# Altium footprint library BRye_PCBLib.PcbLib: 45 footprints (part 3 of 3)
Each footprint in its own frame and in the unit in brackets; x right, y up, seen from the top. Pads: shape width x height; smd on the part's side, far side on the other; paste and mask are expansions set on the pad; w line width, h text height; cw(c..) or ccw(c..) is an arc to the next point about the centre after c.
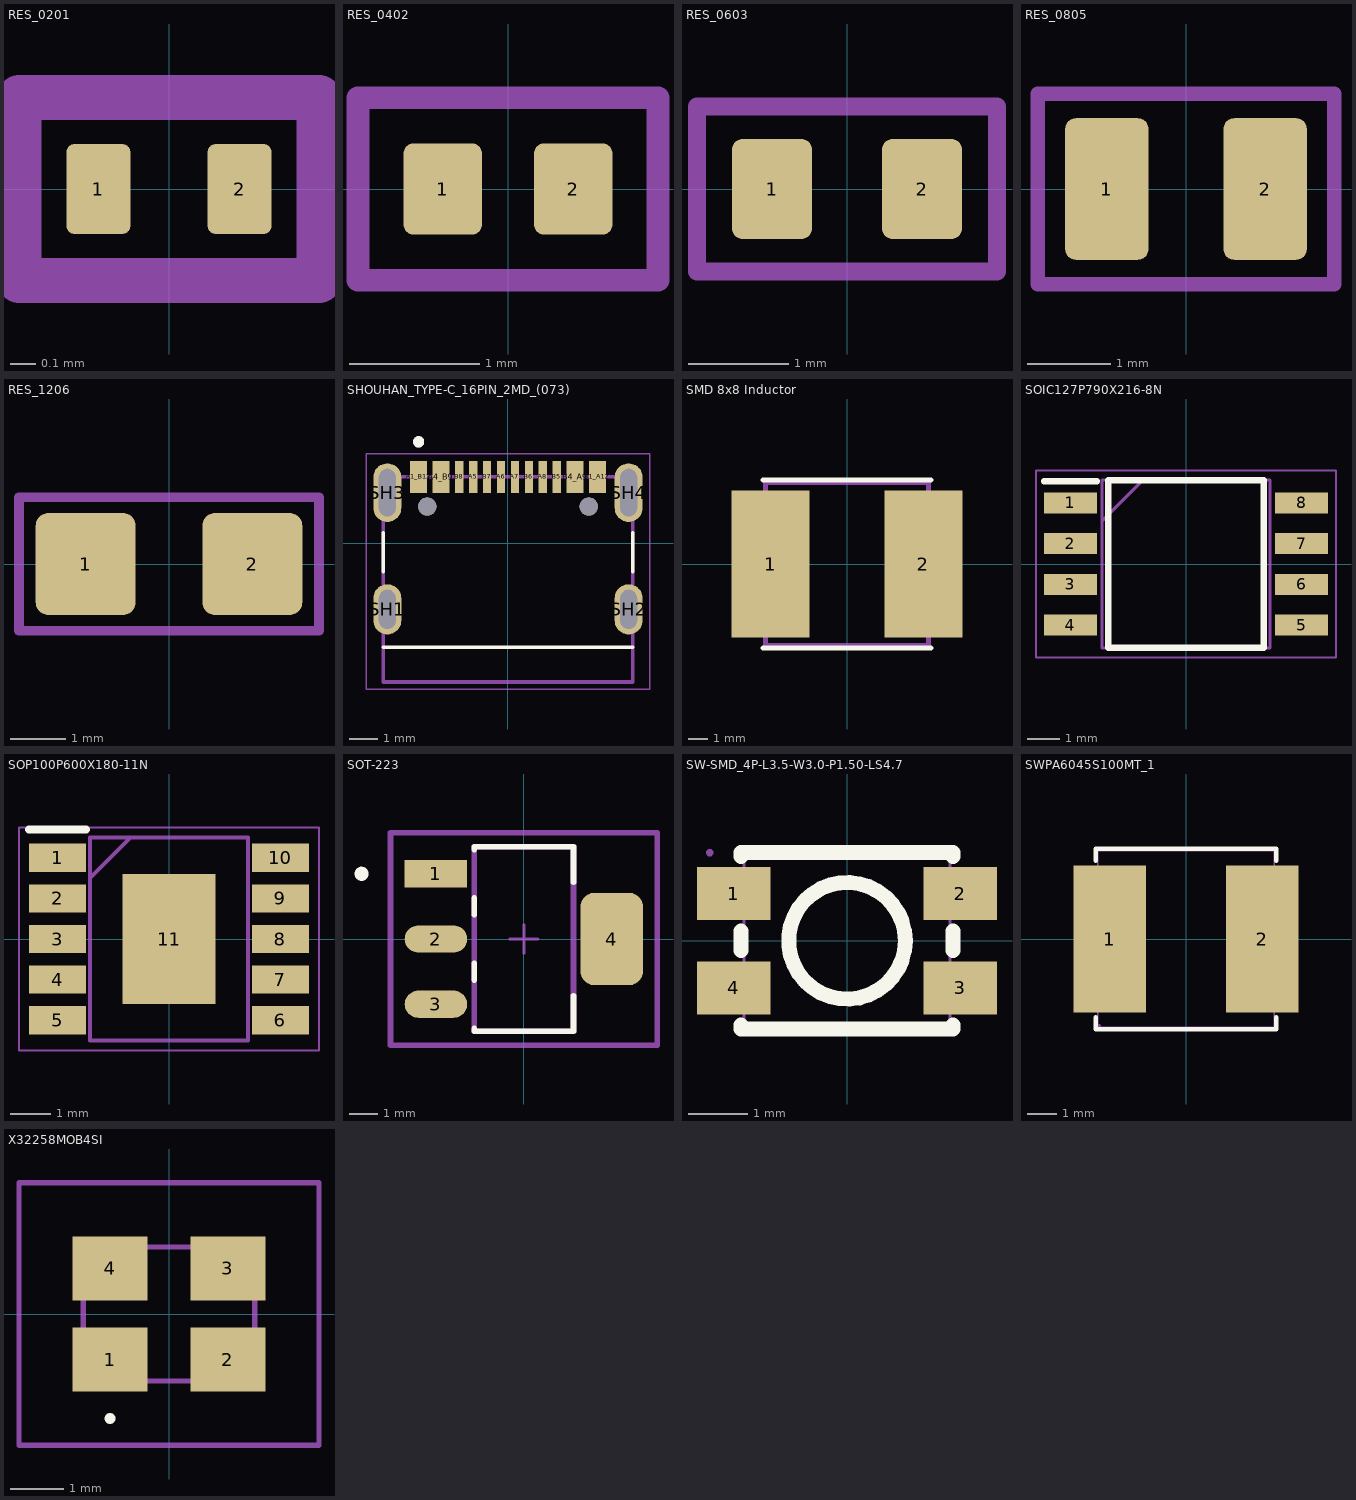
[diagram p2: the footprints below, top view; thin cyan lines are the x and y axes]

## RES_0201 [mm]
pads (2):
  rrect25% 0.25x0.35 smd mask+0.05: 1(-0.275,0) 2(0.275,0)
Top Assembly:
  lines w0.175: -0.584,-0.356 0.584,-0.356 0.584,0.356 -0.584,0.356 -0.584,-0.356
  text "'.Designator'" at -5.665,-0.417 h1
3D body "R0201.step": height 0.15, standoff 0, extent -0.3,-0.15 0.3,0.15

## RES_0402 [mm]
pads (2):
  rrect25% 0.6x0.7 smd: 1(-0.5,0) 2(0.5,0)
Top Assembly:
  lines w0.175: -1.15,-0.7 -1.15,0.7 1.15,0.7 1.15,-0.7 -1.15,-0.7
  text "'.Designator'" at -5.665,-0.417 h1
3D body "R0402.step": height 0.3, standoff 0, extent -0.5,-0.25 0.5,0.25

## RES_0603 [mm]
pads (2):
  rrect25% 0.8x1 smd: 1(-0.75,0) 2(0.75,0)
Top Assembly:
  lines w0.175: -1.5,-0.825 1.5,-0.825 1.5,0.825 -1.5,0.825 -1.5,-0.825
  text "'.Designator'" at -5.665,-0.417 h1
3D body "R0603.step": height 0.52, standoff 0.01, extent -0.8,-0.43 0.8,0.43

## RES_0805 [mm]
pads (2):
  rrect25% 1x1.7 smd: 1(-0.95,0) 2(0.95,0)
Top Assembly:
  lines w0.175: -1.778,-1.143 1.778,-1.143 1.778,1.143 -1.778,1.143 -1.778,-1.143
  text "'.Designator'" at -5.665,-0.417 h1
3D body "R0805.step": height 0.47, standoff 0.01, extent -1,-0.63 1,0.63

## RES_1206 [mm]
pads (2):
  rrect25% 1.8x1.84 smd: 1(-1.5,0) 2(1.5,0)
Top Assembly:
  lines w0.175: -2.7,-1.2 2.7,-1.2 2.7,1.2 -2.7,1.2 -2.7,-1.2
  text "'.Designator'" at -5.665,-0.417 h1
3D body "R1206.step": height 0.57, standoff 0.01, extent -1.6,-0.83 1.6,0.83

## SHOUHAN_TYPE-C_16PIN_2MD_(073) [mm]
pads (18):
  rect 0.6x1.15 smd paste+0 mask+0: A1_B12(-3.2,2.372) A4_B9(-2.4,2.372) B1_A12(3.2,2.372) B4_A9(2.4,2.372)
  rect 0.3x1.15 smd paste+0 mask+0: A5(-1.25,2.372) A6(-0.25,2.372) A7(0.25,2.372) A8(1.25,2.372) B5(1.75,2.372) B6(0.75,2.372) B7(-0.75,2.372) B8(-1.75,2.372)
  oval 1x1.8 hole 0.6 slot 1.4 at 90 deg mask+0.102: SH1(-4.32,-2.372) SH2(4.32,-2.372)
  oval 1x2.1 hole 0.6 slot 1.7 at 90 deg mask+0.102: SH3(-4.32,1.807) SH4(4.32,1.807)
  round 0.65 hole 0.65 unplated mask+0: ""(-2.89,1.308) ""(2.89,1.308)
Top Overlay:
  circle w0.2: c-3.2,3.627 r0.1
  lines w0.127: -4.47,-3.722 4.47,-3.722 ; -4.47,-1.022 -4.47,0.377 ; 4.47,-1.022 4.47,0.377
Top Solder:
  region: 2.75,1.757 2.05,1.757 2.05,2.997 2.75,2.997
  region: -2.05,1.757 -2.75,1.757 -2.75,2.997 -2.05,2.997
  region: 3.55,1.757 2.85,1.757 2.85,2.997 3.55,2.997
  region: -2.85,1.757 -3.55,1.757 -3.55,2.997 -2.85,2.997
  region: 0.45,1.757 0.05,1.757 0.05,2.997 0.45,2.997
  region: -0.05,1.757 -0.45,1.757 -0.45,2.997 -0.05,2.997
  region: 0.95,1.757 0.55,1.757 0.55,2.997 0.95,2.997
  region: 1.45,1.757 1.05,1.757 1.05,2.997 1.45,2.997
  region: 1.95,1.757 1.55,1.757 1.55,2.997 1.95,2.997
  region: -0.55,1.757 -0.95,1.757 -0.95,2.997 -0.55,2.997
  region: -1.05,1.757 -1.45,1.757 -1.45,2.997 -1.05,2.997
  region: -1.55,1.757 -1.95,1.757 -1.95,2.997 -1.55,2.997
Top Assembly:
  circle w0.2: c-3.2,3.627 r0.1
  lines w0.127: -4.47,-4.972 -4.47,2.377 4.47,2.377 4.47,-4.972 -4.47,-4.972
Mechanical 15:
  lines w0.05: -5.07,-5.223 5.07,-5.223 5.07,3.197 -5.07,3.197 -5.07,-5.223
3D body "step_temp.STEP": height 3.26, standoff -0.9, extent -4.47,-4.972 4.47,2.678

## SMD 8x8 Inductor [mm] "SMD 8x8 Inductor"
pads (2):
  rect 4x7.5 smd: 1(-3.9,0) 2(3.9,0)
Top Overlay:
  lines w0.254: -4.28,-4.28 4.28,-4.28 ; -4.28,4.28 4.28,4.28
Top Courtyard:
  lines w0.254: -4.15,-4.15 4.15,-4.15 4.15,4.15 -4.15,4.15 -4.15,-4.15

## SOIC127P790X216-8N [mm]
pads (8):
  rect 1.65x0.65 smd: 1(-3.6,1.905) 2(-3.6,0.635) 3(-3.6,-0.635) 4(-3.6,-1.905) 5(3.6,-1.905) 6(3.6,-0.635) 7(3.6,0.635) 8(3.6,1.905)
Top Overlay:
  lines w0.2: -4.425,2.58 -2.775,2.58 ; -2.425,-2.615 2.425,-2.615 2.425,2.615 -2.425,2.615 -2.425,-2.615
Top Assembly:
  lines w0.1: -2.615,1.345 -1.345,2.615 ; -2.615,-2.615 2.615,-2.615 2.615,2.615 -2.615,2.615 -2.615,-2.615
Mechanical 15:
  lines w0.05: -4.675,-2.915 4.675,-2.915 4.675,2.915 -4.675,2.915 -4.675,-2.915
3D body "W25Q128JVSIQ.stp": height 2.16, standoff 0, extent -3.95,-2.615 3.95,2.615

## SOP100P600X180-11N [mm]
pads (11):
  rect 1.4x0.7 smd: 1(-2.75,2) 2(-2.75,1) 3(-2.75,0) 4(-2.75,-1) 5(-2.75,-2) 6(2.75,-2) 7(2.75,-1) 8(2.75,0) 9(2.75,1) 10(2.75,2)
  rect 2.3x3.2 smd: 11(0,0)
Top Overlay:
  lines w0.2: -3.45,2.7 -2.05,2.7
Top Assembly:
  lines w0.1: -1.95,1.5 -0.95,2.5 ; -1.95,-2.5 -1.95,2.5 1.95,2.5 1.95,-2.5 -1.95,-2.5
Mechanical 15:
  lines w0.05: -3.7,-2.75 -3.7,2.75 3.7,2.75 3.7,-2.75 -3.7,-2.75
3D body "CH224K.stp": height 1.8, standoff 0, extent -3,-2.5 3,2.5

## SOT-223 [mm]
pads (4):
  rect 2.204x0.96 smd paste+0 mask+0: 1(-3.1,2.3)
  rrect100% 2.204x0.96 smd paste+0 mask+0: 2(-3.1,0) 3(-3.1,-2.3)
  rrect44% 2.204x3.26 smd paste+0 mask+0: 4(3.1,0)
Top Overlay:
  circle w0.25: c-5.725,2.3 r0.125
  lines w0.2: -1.75,-3.155 -1.75,-3.25 1.75,-3.25 1.75,-2.005 ; -1.75,-1.445 -1.75,-0.855 ; -1.75,0.855 -1.75,1.445 ; -1.75,3.155 -1.75,3.25 1.75,3.25 1.75,2.005
Top Courtyard:
  lines w0.2: -4.702,-3.75 4.702,-3.75 4.702,3.75 -4.702,3.75 -4.702,-3.75
Board:
  lines w0.1: -0.5,0 0.5,0 ; 0,-0.5 0,0.5
Top 3D Body:
  lines w0.2: -4.702,-3.75 4.702,-3.75 4.702,3.75 -4.702,3.75 -4.702,-3.75 ; -1.75,-3.25 1.75,-3.25 1.75,3.25 -1.75,3.25 -1.75,-3.25
  text ".Designator" at 0,0.188 h1
3D body "IC_STMicroelectronics_LDL1117S33R_eec.STEP": height 0.25, standoff 0, extent -4.702,-3.75 4.702,3.75

## SW-SMD_4P-L3.5-W3.0-P1.50-LS4.7 [mm]
pads (4):
  rect 1.25x0.9 smd: 1(-1.925,0.8) 2(1.925,0.8) 3(1.925,-0.8) 4(-1.925,-0.8)
Top Overlay:
  circle w0.254: c0,0 r0.992
  lines w0.254: -1.8,-1.431 -1.8,-1.5 1.8,-1.5 1.8,-1.431 ; -1.8,-0.169 -1.8,0.169 ; -1.8,1.431 -1.8,1.5 1.8,1.5 1.8,1.431 ; 1.8,-0.169 1.8,0.169
Mechanical 15:
  region: -2.27,1.5 -2.27,1.475 -2.305,1.44 -2.355,1.44 -2.39,1.475 -2.39,1.5 -2.39,1.525 -2.355,1.56 -2.305,1.56 -2.27,1.525
  region: 2.32,1.05 2.32,0.55 1.74,0.55 1.74,1.05
  region: 2.32,-0.55 2.32,-1.05 1.74,-1.05 1.74,-0.55
  region: -1.75,1.05 -1.75,0.55 -2.33,0.55 -2.33,1.05
  region: -1.75,-0.55 -1.75,-1.05 -2.33,-1.05 -2.33,-0.55
  lines w0.051: -1.75,-1.5 1.75,-1.5 1.75,1.5 -1.75,1.5 -1.75,-1.5

## SWPA6045S100MT_1 [mm]
pads (2):
  rect 2.474x5.02 smd: 1(-2.603,0) 2(2.603,0)
Top Overlay:
  lines w0.152: -3.076,-2.662 -3.076,-3.076 3.076,-3.076 3.076,-2.662 ; -3.076,2.662 -3.076,3.076 3.076,3.076 3.076,2.662
Mechanical 15:
  region: -3,2.45 -1.45,2.45 -1.45,-2.45 -3,-2.45
  region: 1.45,2.45 3,2.45 3,-2.45 1.45,-2.45
  region: -2.91,-2.97 -2.91,-2.995 -2.945,-3.03 -2.995,-3.03 -3.03,-2.995 -3.03,-2.97 -3.03,-2.945 -2.995,-2.91 -2.945,-2.91 -2.91,-2.945
  lines w0.051: -3,-3 3,-3 3,3 -3,3 -3,-3

## X32258MOB4SI [mm]
pads (4):
  rect 1.4x1.2 smd: 1(-1.1,-0.85) 2(1.1,-0.85) 3(1.1,0.85) 4(-1.1,0.85)
Top Overlay:
  lines w0.1: -1.1,-2 cw(c-1.1,-1.95) -1.1,-1.9 cw(c-1.1,-1.95) -1.1,-2
Top Assembly:
  lines w0.1: -1.6,-1.25 -1.6,1.25 1.6,1.25 1.6,-1.25 -1.6,-1.25
Mechanical 15:
  lines w0.1: -2.8,-2.45 -2.8,2.45 2.8,2.45 2.8,-2.45 -2.8,-2.45
3D body "X32258MOB4SI.stp": height 0.9, standoff 0, extent -1.68,-1.33 1.68,1.33